# EAGLE library part SX8635 (library BlueHome)
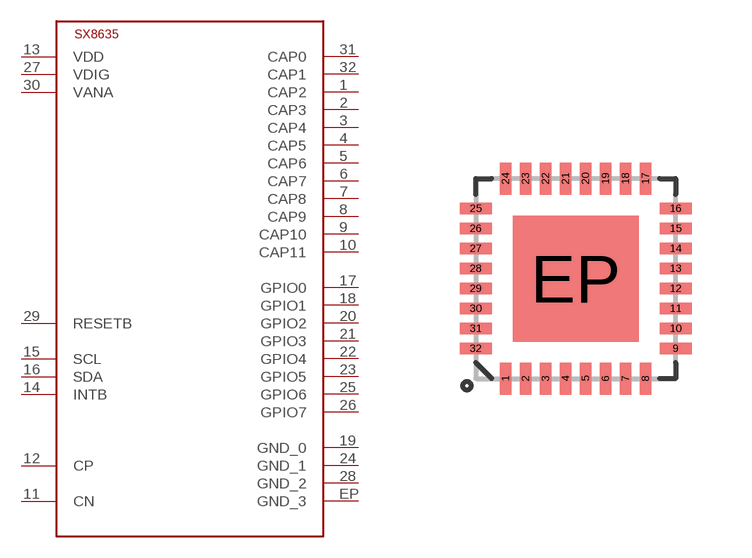
[diagram p14: symbol with the pads of QFN-32; footprint QFN-32]

Designator prefix -

## SX8635  [QFN-32]
1  CAP2
2  CAP3
3  CAP4
4  CAP5
5  CAP6
6  CAP7
7  CAP8
8  CAP9
9  CAP10
10  CAP11
11  CN
12  CP
13  VDD
14  INTB
15  SCL
16  SDA
17  GPIO0
18  GPIO1
19  GND_0
20  GPIO2
21  GPIO3
22  GPIO4
23  GPIO5
24  GND_1
25  GPIO6
26  GPIO7
27  VDIG
28  GND_2
29  RESETB
30  VANA
31  CAP0
32  CAP1
EP  GND_3

## Footprint QFN-32 (pad centres in mm)
QFN 32-Pin package w/ Thermal Pad ***Unproven*** Applicable Parts: TLC5940
smd 0.285 x 0.8: 1 -1.75,-2.5; 2 -1.25,-2.5; 3 -0.75,-2.5; 4 -0.25,-2.5; 5 0.25,-2.5; 6 0.75,-2.5; 7 1.25,-2.5; 8 1.75,-2.5; 17 1.75,2.5; 18 1.25,2.5; 19 0.75,2.5; 20 0.25,2.5; 21 -0.25,2.5; 22 -0.75,2.5; 23 -1.25,2.5; 24 -1.75,2.5
smd 0.8 x 0.285: 9 2.5,-1.75; 10 2.5,-1.25; 11 2.5,-0.75; 12 2.5,-0.25; 13 2.5,0.25; 14 2.5,0.75; 15 2.5,1.25; 16 2.5,1.75; 25 -2.5,1.75; 26 -2.5,1.25; 27 -2.5,0.75; 28 -2.5,0.25; 29 -2.5,-0.25; 30 -2.5,-0.75; 31 -2.5,-1.25; 32 -2.5,-1.75
smd 3.15 x 3.15: EP 0,0